# Altium schematic symbol library RF.SchLib: 2 symbols
Pins are listed as number, name and electrical type; pins without a type are passive.

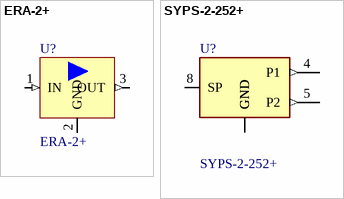
[diagram p0: symbols ERA-2+ to SYPS-2-252+]

## ERA-2+
designator U?
Monolithic Amplifier DC - 6GHz; Manufacturer: MiniCircuits; Sort: 510; Tech: SMDR; Manufacturer No: ERA-2+; Package: VV109; Price: 0
footprint VV105 (RF amplifier)
pins: 1 IN (in), 2 GND (power), 3 OUT (out)

## SYPS-2-252+
designator U?
Power Splitter / Combiner 2-Way, 50R, 5 MHz to 2500 MHz; Manufacturer: Mini Circuits; Sort: 510; Tech: SMDR; Manufacturer No: SYPS-2-252+; Package: AH202-2; Price: 0
footprint AH202-2 (Power Splitter/Combiner 2way 50R 5 to 2500MHz)
pins: 1 GND (power), 4 P1 (out), 5 P2 (out), 8 SP, 23 GND (power), 67 GND (power)